# Altium footprint library KF接线端子.PcbLib: 88 footprints (part 2 of 6)
Each footprint in its own frame and in the unit in brackets; x right, y up, seen from the top. Pads: shape width x height; smd on the part's side, far side on the other; paste and mask are expansions set on the pad; w line width, h text height; cw(c..) or ccw(c..) is an arc to the next point about the centre after c.
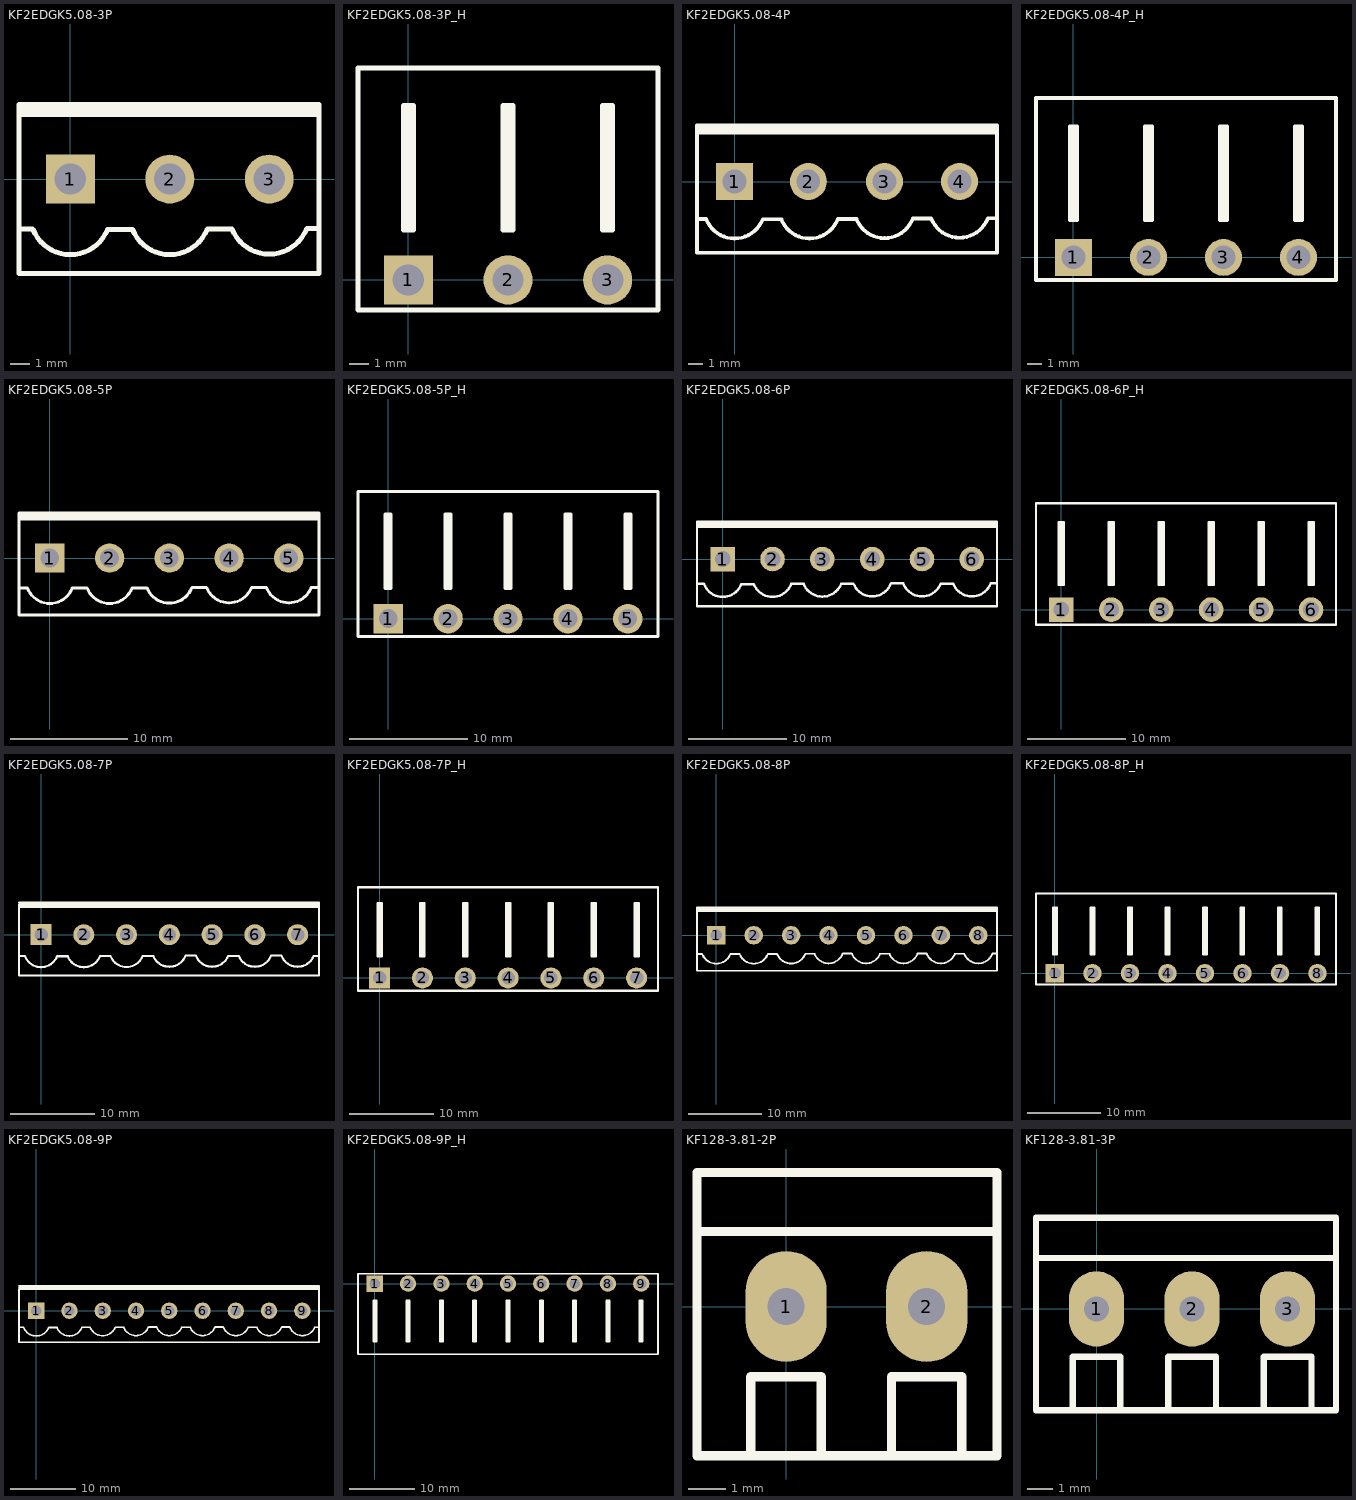
[diagram p1: the footprints below, top view; thin cyan lines are the x and y axes]

## KF2EDGK5.08-3P [mm] "直列插拔式端子"
pads (3):
  rect 2.5x2.5 hole 1.6: 1(0,0)
  round 2.5 hole 1.6: 2(5.08,0) 3(10.16,0)
Top Overlay:
  lines w0.254: -2.62,3.302 12.7,3.302 ; -2.62,3.556 12.7,3.556 ; -2.54,-2.54 -1.93,-2.54 ; -1.905,-2.565 ccw(c0,-1.812) 1.905,-2.565 2.54,-2.565 3.175,-2.565 ccw(c5.08,-1.812) 6.985,-2.565 ; 7.01,-2.54 7.62,-2.54 8.255,-2.54 ccw(c10.16,-1.787) 12.065,-2.54 ; 12.09,-2.515 12.7,-2.515 ; -2.62,-4.826 12.7,-4.826 12.7,3.81 -2.62,3.81 -2.62,-4.826
3D body: height 11.25, standoff -2.95, extent -2.54,-4.75 2.54,3.75
3D body: height 11.25, standoff -2.95, extent 2.54,-4.75 7.62,3.75
3D body: height 11.25, standoff -2.95, extent 7.62,-4.75 12.7,3.75

## KF2EDGK5.08-3P_H [mm] "弯角插拔式端子"
pads (3):
  rect 2.5x2.5 hole 1.6: 1(0,0)
  round 2.5 hole 1.6: 2(5.08,0) 3(10.16,0)
Top Overlay:
  lines w0.254: 0,2.54 0,8.89 ; 5.08,2.54 5.08,8.89 ; 10.16,2.54 10.16,8.89 ; 0,8.89 -0.254,8.89 -0.254,2.54 0.254,2.54 0.254,8.89 0,8.89 ; 5.08,8.89 4.826,8.89 4.826,2.54 5.334,2.54 5.334,8.89 5.08,8.89 ; 10.16,8.89 9.906,8.89 9.906,2.54 10.414,2.54 10.414,8.89 10.16,8.89 ; -2.565,-1.524 -2.565,10.795 12.725,10.795 12.725,-1.524 -2.565,-1.524
3D body: height 8.5, standoff -3, extent 7.62,-0.5 12.7,10.8
3D body: height 8.5, standoff -3, extent 2.54,-0.5 7.62,10.8
3D body: height 8.5, standoff -3, extent -2.54,-0.5 2.54,10.8

## KF2EDGK5.08-4P [mm] "直列插拔式端子"
pads (4):
  rect 2.5x2.5 hole 1.6: 1(0,0)
  round 2.5 hole 1.6: 2(5,0) 3(10.16,0) 4(15.24,0)
Top Overlay:
  lines w0.254: -2.54,-2.54 -1.93,-2.54 ; -2.54,3.302 17.78,3.302 ; -2.515,3.556 17.78,3.556 ; -1.905,-2.565 ccw(c0,-1.812) 1.905,-2.565 2.54,-2.565 3.175,-2.565 ccw(c5.08,-1.812) 6.985,-2.565 ; 7.01,-2.54 7.62,-2.54 8.255,-2.54 ccw(c10.16,-1.787) 12.065,-2.54 ; 12.09,-2.515 12.7,-2.515 13.335,-2.515 ccw(c15.24,-1.762) 17.145,-2.515 ; 17.17,-2.489 17.78,-2.489 ; -2.54,-4.826 17.78,-4.826 17.78,3.81 -2.54,3.81 -2.54,-4.826
3D body: height 11.25, standoff -2.95, extent -2.54,-4.75 2.54,3.75
3D body: height 11.25, standoff -2.95, extent 2.54,-4.75 7.62,3.75
3D body: height 11.25, standoff -2.95, extent 7.62,-4.75 12.7,3.75
3D body: height 11.25, standoff -2.95, extent 12.7,-4.75 17.78,3.75

## KF2EDGK5.08-4P_H [mm] "弯角插拔式端子"
pads (4):
  rect 2.5x2.5 hole 1.6: 1(0,0)
  round 2.5 hole 1.6: 2(5.08,0) 3(10.16,0) 4(15.24,0)
Top Overlay:
  lines w0.254: 0,2.54 0,8.89 ; 5.08,2.54 5.08,8.89 ; 10.16,2.54 10.16,8.89 ; 15.24,2.54 15.24,8.89 ; 0,8.89 -0.254,8.89 -0.254,2.54 0.254,2.54 0.254,8.89 0,8.89 ; 5.08,8.89 5.334,8.89 5.334,2.54 4.826,2.54 4.826,8.89 5.08,8.89 ; 10.16,8.89 10.414,8.89 10.414,2.54 9.906,2.54 9.906,8.89 10.16,8.89 ; 15.24,8.89 15.494,8.89 15.494,2.54 14.986,2.54 14.986,8.89 15.24,8.89 ; -2.54,-1.524 -2.54,10.795 17.78,10.795 17.78,-1.524 -2.54,-1.524
3D body: height 8.5, standoff -3, extent 12.7,-0.5 17.78,10.8
3D body: height 8.5, standoff -3, extent 7.62,-0.5 12.7,10.8
3D body: height 8.5, standoff -3, extent 2.54,-0.5 7.62,10.8
3D body: height 8.5, standoff -3, extent -2.54,-0.5 2.54,10.8

## KF2EDGK5.08-5P [mm] "直列插拔式端子"
pads (5):
  rect 2.5x2.5 hole 1.6: 1(0,0)
  round 2.5 hole 1.6: 2(5.08,0) 3(10.16,0) 4(15.24,0) 5(20.32,0)
Top Overlay:
  lines w0.254: -2.62,3.302 22.885,3.302 ; -2.62,3.556 22.885,3.556 ; -2.54,-2.54 -1.93,-2.54 ; -1.905,-2.565 ccw(c0,-1.812) 1.905,-2.565 2.54,-2.565 3.175,-2.565 ccw(c5.08,-1.812) 6.985,-2.565 ; 7.01,-2.54 7.62,-2.54 8.255,-2.54 ccw(c10.16,-1.787) 12.065,-2.54 ; 12.09,-2.515 12.7,-2.515 13.335,-2.515 ccw(c15.24,-1.762) 17.145,-2.515 ; 17.17,-2.489 17.78,-2.489 18.39,-2.489 ; 18.415,-2.515 ccw(c20.32,-1.762) 22.225,-2.515 22.86,-2.515 ; -2.62,-4.826 22.885,-4.826 22.885,3.81 -2.62,3.81 -2.62,-4.826
3D body: height 11.25, standoff -2.95, extent 17.78,-4.75 22.86,3.75
3D body: height 11.25, standoff -2.95, extent 12.7,-4.75 17.78,3.75
3D body: height 11.25, standoff -2.95, extent 7.62,-4.75 12.7,3.75
3D body: height 11.25, standoff -2.95, extent 2.54,-4.75 7.62,3.75
3D body: height 11.25, standoff -2.95, extent -2.54,-4.75 2.54,3.75

## KF2EDGK5.08-5P_H [mm] "弯角插拔式端子"
pads (5):
  rect 2.5x2.5 hole 1.6: 1(0,0)
  round 2.5 hole 1.6: 2(5.08,0) 3(10.16,0) 4(15.24,0) 5(20.32,0)
Top Overlay:
  lines w0.254: 0,2.54 0,8.89 ; 5.08,2.54 5.08,8.89 ; 10.16,2.54 10.16,8.89 ; 15.24,2.54 15.24,8.89 ; 20.32,2.54 20.32,8.89 ; 0,8.89 0.254,8.89 0.254,2.54 -0.254,2.54 -0.254,8.89 0,8.89 ; 5.08,8.89 5.334,8.89 5.334,2.54 4.826,2.54 4.826,8.89 5.08,8.89 ; 10.16,8.89 10.414,8.89 10.414,2.54 9.906,2.54 9.906,8.89 10.16,8.89 ; 15.24,8.89 15.494,8.89 15.494,2.54 14.986,2.54 14.986,8.89 15.24,8.89 ; 20.32,8.89 20.574,8.89 20.574,2.54 20.066,2.54 20.066,8.89 20.32,8.89 ; -2.565,-1.524 22.885,-1.524 22.885,10.795 -2.565,10.795 -2.565,-1.524
3D body: height 8.5, standoff -3, extent 17.78,-0.5 22.86,10.8
3D body: height 8.5, standoff -3, extent 12.7,-0.5 17.78,10.8
3D body: height 8.5, standoff -3, extent 7.62,-0.5 12.7,10.8
3D body: height 8.5, standoff -3, extent 2.54,-0.5 7.62,10.8
3D body: height 8.5, standoff -3, extent -2.54,-0.5 2.54,10.8

## KF2EDGK5.08-6P [mm] "直列插拔式端子"
pads (6):
  rect 2.5x2.5 hole 1.6: 1(0,0)
  round 2.5 hole 1.6: 2(5.08,0) 3(10.16,0) 4(15.24,0) 5(20.32,0) 6(25.4,0)
Top Overlay:
  lines w0.254: -2.62,3.302 27.965,3.302 ; -2.62,3.556 27.965,3.556 ; -2.54,-2.54 -1.93,-2.54 ; -1.905,-2.565 ccw(c0,-1.812) 1.905,-2.565 2.54,-2.565 3.175,-2.565 ccw(c5.08,-1.812) 6.985,-2.565 ; 7.01,-2.54 7.62,-2.54 8.255,-2.54 ccw(c10.16,-1.787) 12.065,-2.54 ; 12.09,-2.515 12.7,-2.515 13.335,-2.515 ccw(c15.24,-1.762) 17.145,-2.515 ; 17.17,-2.489 17.78,-2.489 18.39,-2.489 ; 18.415,-2.515 ccw(c20.32,-1.762) 22.225,-2.515 22.86,-2.515 23.495,-2.515 ccw(c25.4,-1.762) 27.305,-2.515 ; 27.33,-2.489 27.94,-2.489 ; -2.62,-4.826 -2.62,3.81 27.965,3.81 27.965,-4.826 -2.62,-4.826
3D body: height 11.25, standoff -2.95, extent 22.86,-4.75 27.94,3.75
3D body: height 11.25, standoff -2.95, extent 17.78,-4.75 22.86,3.75
3D body: height 11.25, standoff -2.95, extent 12.7,-4.75 17.78,3.75
3D body: height 11.25, standoff -2.95, extent 7.62,-4.75 12.7,3.75
3D body: height 11.25, standoff -2.95, extent 2.54,-4.75 7.62,3.75
3D body: height 11.25, standoff -2.95, extent -2.54,-4.75 2.54,3.75

## KF2EDGK5.08-6P_H [mm] "弯角插拔式端子"
pads (6):
  rect 2.5x2.5 hole 1.6: 1(0,0)
  round 2.5 hole 1.6: 2(5.08,0) 3(10.16,0) 4(15.24,0) 5(20.32,0) 6(25.4,0)
Top Overlay:
  lines w0.254: 0,2.54 0,8.89 ; 5.08,2.54 5.08,8.89 ; 10.16,2.54 10.16,8.89 ; 15.24,2.54 15.24,8.89 ; 20.32,2.54 20.32,8.89 ; 25.4,2.54 25.4,8.89 ; 0,8.89 0.254,8.89 0.254,2.54 -0.254,2.54 -0.254,8.89 0,8.89 ; 5.08,8.89 4.826,8.89 4.826,2.54 5.334,2.54 5.334,8.89 5.08,8.89 ; 10.16,8.89 9.906,8.89 9.906,2.54 10.414,2.54 10.414,8.89 10.16,8.89 ; 15.24,8.89 14.986,8.89 14.986,2.54 15.494,2.54 15.494,8.89 15.24,8.89 ; 20.32,8.89 20.066,8.89 20.066,2.54 20.574,2.54 20.574,8.89 20.32,8.89 ; 25.4,8.89 25.146,8.89 25.146,2.54 25.654,2.54 25.654,8.89 25.4,8.89 ; -2.565,-1.524 27.94,-1.524 27.94,10.8 -2.565,10.8 -2.565,-1.524
3D body: height 8.5, standoff -3, extent 22.86,-0.5 27.94,10.8
3D body: height 8.5, standoff -3, extent 17.78,-0.5 22.86,10.8
3D body: height 8.5, standoff -3, extent 12.7,-0.5 17.78,10.8
3D body: height 8.5, standoff -3, extent 7.62,-0.5 12.7,10.8
3D body: height 8.5, standoff -3, extent 2.54,-0.5 7.62,10.8
3D body: height 8.5, standoff -3, extent -2.54,-0.5 2.54,10.8

## KF2EDGK5.08-7P [mm] "直列插拔式端子"
pads (7):
  rect 2.5x2.5 hole 1.6: 1(0,0)
  round 2.5 hole 1.6: 2(5.08,0) 3(10.16,0) 4(15.24,0) 5(20.32,0) 6(25.4,0) 7(30.48,0)
Top Overlay:
  lines w0.254: -2.62,3.302 33.02,3.302 ; -2.62,3.81 33.02,3.81 33.02,-4.826 -2.62,-4.826 -2.62,3.556 33.02,3.556 ; -2.54,-2.54 -1.93,-2.54 ; -1.905,-2.565 ccw(c0,-1.812) 1.905,-2.565 2.54,-2.565 3.175,-2.565 ccw(c5.08,-1.812) 6.985,-2.565 ; 7.01,-2.54 7.62,-2.54 8.255,-2.54 ccw(c10.16,-1.787) 12.065,-2.54 ; 12.09,-2.515 12.7,-2.515 13.335,-2.515 ccw(c15.24,-1.762) 17.145,-2.515 ; 17.17,-2.489 17.78,-2.489 18.39,-2.489 ; 18.415,-2.515 ccw(c20.32,-1.762) 22.225,-2.515 22.86,-2.515 23.495,-2.515 ccw(c25.4,-1.762) 27.305,-2.515 ; 27.33,-2.489 27.94,-2.489 28.55,-2.489 ; 28.575,-2.515 ccw(c30.48,-1.762) 32.385,-2.515 33.02,-2.515
3D body: height 11.25, standoff -2.95, extent 27.94,-4.75 33.02,3.75
3D body: height 11.25, standoff -2.95, extent 22.86,-4.75 27.94,3.75
3D body: height 11.25, standoff -2.95, extent 17.78,-4.75 22.86,3.75
3D body: height 11.25, standoff -2.95, extent 12.7,-4.75 17.78,3.75
3D body: height 11.25, standoff -2.95, extent 2.54,-4.75 7.62,3.75
3D body: height 11.25, standoff -2.95, extent 7.62,-4.75 12.7,3.75
3D body: height 11.25, standoff -2.95, extent -2.54,-4.75 2.54,3.75

## KF2EDGK5.08-7P_H [mm] "弯角插拔式端子"
pads (7):
  rect 2.5x2.5 hole 1.6: 1(0,0)
  round 2.5 hole 1.6: 2(5.08,0) 3(10.16,0) 4(15.24,0) 5(20.32,0) 6(25.4,0) 7(30.48,0)
Top Overlay:
  lines w0.254: 0,2.54 0,8.89 ; 5.08,2.54 5.08,8.89 ; 10.16,2.54 10.16,8.89 ; 15.24,2.54 15.24,8.89 ; 20.32,2.54 20.32,8.89 ; 25.4,2.54 25.4,8.89 ; 30.48,2.54 30.48,8.89 ; 0,8.89 0.254,8.89 0.254,2.54 -0.254,2.54 -0.254,8.89 0,8.89 ; 5.08,8.89 4.826,8.89 4.826,2.54 5.334,2.54 5.334,8.89 5.08,8.89 ; 10.16,8.89 9.906,8.89 9.906,2.54 10.414,2.54 10.414,8.89 10.16,8.89 ; 15.24,8.89 14.986,8.89 14.986,2.54 15.494,2.54 15.494,8.89 15.24,8.89 ; 20.32,8.89 20.066,8.89 20.066,2.54 20.574,2.54 20.574,8.89 20.32,8.89 ; 25.4,8.89 25.146,8.89 25.146,2.54 25.654,2.54 25.654,8.89 25.4,8.89 ; 30.48,8.89 30.226,8.89 30.226,2.54 30.734,2.54 30.734,8.89 30.48,8.89 ; -2.565,-1.524 33.02,-1.524 33.02,10.77 -2.565,10.77 -2.565,-1.524
3D body: height 8.5, standoff -3, extent 27.94,-0.5 33.02,10.8
3D body: height 8.5, standoff -3, extent 22.86,-0.5 27.94,10.8
3D body: height 8.5, standoff -3, extent 17.78,-0.5 22.86,10.8
3D body: height 8.5, standoff -3, extent 12.7,-0.5 17.78,10.8
3D body: height 8.5, standoff -3, extent 7.62,-0.5 12.7,10.8
3D body: height 8.5, standoff -3, extent 2.54,-0.5 7.62,10.8
3D body: height 8.5, standoff -3, extent -2.54,-0.5 2.54,10.8

## KF2EDGK5.08-8P [mm] "直列插拔式端子"
pads (8):
  rect 2.5x2.5 hole 1.6: 1(0,0)
  round 2.5 hole 1.6: 2(5.08,0) 3(10.16,0) 4(15.24,0) 5(20.32,0) 6(25.4,0) 7(30.48,0) 8(35.56,0)
Top Overlay:
  lines w0.254: -2.62,3.302 38.1,3.302 ; -2.62,3.556 38.1,3.556 ; -2.54,-2.54 -1.93,-2.54 ; -1.905,-2.565 ccw(c0,-1.812) 1.905,-2.565 2.54,-2.565 3.175,-2.565 ccw(c5.08,-1.812) 6.985,-2.565 ; 7.01,-2.54 7.62,-2.54 8.255,-2.54 ccw(c10.16,-1.787) 12.065,-2.54 ; 12.09,-2.515 12.7,-2.515 13.335,-2.515 ccw(c15.24,-1.762) 17.145,-2.515 ; 17.17,-2.489 17.78,-2.489 18.39,-2.489 ; 18.415,-2.515 ccw(c20.32,-1.762) 22.225,-2.515 22.86,-2.515 23.495,-2.515 ccw(c25.4,-1.762) 27.305,-2.515 ; 27.33,-2.489 27.94,-2.489 28.55,-2.489 ; 28.575,-2.515 ccw(c30.48,-1.762) 32.385,-2.515 33.02,-2.515 33.655,-2.515 ccw(c35.56,-1.762) 37.465,-2.515 ; 37.49,-2.489 38.1,-2.489 ; -2.62,-4.826 -2.62,3.81 38.1,3.81 38.1,-4.826 -2.62,-4.826
3D body: height 11.25, standoff -2.95, extent -2.54,-4.75 2.54,3.75
3D body: height 11.25, standoff -2.95, extent 2.54,-4.75 7.62,3.75
3D body: height 11.25, standoff -2.95, extent 7.62,-4.75 12.7,3.75
3D body: height 11.25, standoff -2.95, extent 12.7,-4.75 17.78,3.75
3D body: height 11.25, standoff -2.95, extent 17.78,-4.75 22.86,3.75
3D body: height 11.25, standoff -2.95, extent 22.86,-4.75 27.94,3.75
3D body: height 11.25, standoff -2.95, extent 27.94,-4.75 33.02,3.75
3D body: height 11.25, standoff -2.95, extent 33.02,-4.75 38.1,3.75

## KF2EDGK5.08-8P_H [mm] "弯角插拔式端子"
pads (8):
  rect 2.5x2.5 hole 1.6: 1(0,0)
  round 2.5 hole 1.6: 2(5.08,0) 3(10.16,0) 4(15.24,0) 5(20.32,0) 6(25.4,0) 7(30.48,0) 8(35.56,0)
Top Overlay:
  lines w0.254: 0,2.54 0,8.89 ; 5.08,2.54 5.08,8.89 ; 10.16,2.54 10.16,8.89 ; 15.24,2.54 15.24,8.89 ; 20.32,2.54 20.32,8.89 ; 25.4,2.54 25.4,8.89 ; 30.48,2.54 30.48,8.89 ; 35.56,2.54 35.56,8.89 ; 0,8.89 0.254,8.89 0.254,2.54 -0.254,2.54 -0.254,8.89 0,8.89 ; 5.08,8.89 4.826,8.89 4.826,2.54 5.334,2.54 5.334,8.89 5.08,8.89 ; 10.16,8.89 9.906,8.89 9.906,2.54 10.414,2.54 10.414,8.89 10.16,8.89 ; 15.24,8.89 14.986,8.89 14.986,2.54 15.494,2.54 15.494,8.89 15.24,8.89 ; 20.32,8.89 20.066,8.89 20.066,2.54 20.574,2.54 20.574,8.89 20.32,8.89 ; 25.4,8.89 25.146,8.89 25.146,2.54 25.654,2.54 25.654,8.89 25.4,8.89 ; 30.48,8.89 30.226,8.89 30.226,2.54 30.734,2.54 30.734,8.89 30.48,8.89 ; 35.56,8.89 35.306,8.89 35.306,2.54 35.814,2.54 35.814,8.89 35.56,8.89 ; -2.565,-1.524 38.075,-1.524 38.075,10.795 -2.565,10.795 -2.565,-1.524
3D body: height 8.5, standoff -3, extent 33.02,-0.5 38.1,10.8
3D body: height 8.5, standoff -3, extent 27.94,-0.5 33.02,10.8
3D body: height 8.5, standoff -3, extent 22.86,-0.5 27.94,10.8
3D body: height 8.5, standoff -3, extent 17.78,-0.5 22.86,10.8
3D body: height 8.5, standoff -3, extent 12.7,-0.5 17.78,10.8
3D body: height 8.5, standoff -3, extent 7.62,-0.5 12.7,10.8
3D body: height 8.5, standoff -3, extent 2.54,-0.5 7.62,10.8
3D body: height 8.5, standoff -3, extent -2.54,-0.5 2.54,10.8

## KF2EDGK5.08-9P [mm] "直列插拔式端子"
pads (9):
  rect 2.5x2.5 hole 1.6: 1(0,0)
  round 2.5 hole 1.6: 2(5.08,0) 3(10.16,0) 4(15.24,0) 5(20.32,0) 6(25.4,0) 7(30.48,0) 8(35.56,0) 9(40.64,0)
Top Overlay:
  lines w0.254: -2.62,3.556 43.129,3.556 ; -2.62,3.81 43.18,3.81 43.18,-4.826 -2.62,-4.826 -2.62,3.302 43.18,3.302 ; -2.54,-2.54 -1.93,-2.54 ; -1.905,-2.565 ccw(c0,-1.812) 1.905,-2.565 2.54,-2.565 3.175,-2.565 ccw(c5.08,-1.812) 6.985,-2.565 ; 7.01,-2.54 7.62,-2.54 8.255,-2.54 ccw(c10.16,-1.787) 12.065,-2.54 ; 12.09,-2.515 12.7,-2.515 13.335,-2.515 ccw(c15.24,-1.762) 17.145,-2.515 ; 17.17,-2.489 17.78,-2.489 18.39,-2.489 ; 18.415,-2.515 ccw(c20.32,-1.762) 22.225,-2.515 22.86,-2.515 23.495,-2.515 ccw(c25.4,-1.762) 27.305,-2.515 ; 27.33,-2.489 27.94,-2.489 28.55,-2.489 ; 28.575,-2.515 ccw(c30.48,-1.762) 32.385,-2.515 33.02,-2.515 33.655,-2.515 ccw(c35.56,-1.762) 37.465,-2.515 ; 37.49,-2.489 38.1,-2.489 38.71,-2.489 ; 38.735,-2.515 ccw(c40.64,-1.762) 42.545,-2.515 43.18,-2.515
3D body: height 11.25, standoff -2.95, extent 38.1,-4.75 43.18,3.75
3D body: height 11.25, standoff -2.95, extent 33.02,-4.75 38.1,3.75
3D body: height 11.25, standoff -2.95, extent 27.94,-4.75 33.02,3.75
3D body: height 11.25, standoff -2.95, extent 22.86,-4.75 27.94,3.75
3D body: height 11.25, standoff -2.95, extent 17.78,-4.75 22.86,3.75
3D body: height 11.25, standoff -2.95, extent 12.7,-4.75 17.78,3.75
3D body: height 11.25, standoff -2.95, extent 7.62,-4.75 12.7,3.75
3D body: height 11.25, standoff -2.95, extent 2.54,-4.75 7.62,3.75
3D body: height 11.25, standoff -2.95, extent -2.54,-4.75 2.54,3.75

## KF2EDGK5.08-9P_H [mm] "弯角插拔式端子"
pads (9):
  rect 2.5x2.5 hole 1.6: 1(0,0)
  round 2.5 hole 1.6: 2(5.08,0) 3(10.16,0) 4(15.24,0) 5(20.32,0) 6(25.4,0) 7(30.48,0) 8(35.56,0) 9(40.64,0)
Top Overlay:
  lines w0.254: 0,-2.54 0,-8.89 ; 5.08,-2.54 5.08,-8.89 ; 10.16,-2.54 10.16,-8.89 ; 15.24,-2.54 15.24,-8.89 ; 20.32,-2.54 20.32,-8.89 ; 25.4,-2.54 25.4,-8.89 ; 30.48,-2.54 30.48,-8.89 ; 35.56,-2.54 35.56,-8.89 ; 40.64,-2.54 40.64,-8.89 ; 0,-8.89 -0.254,-8.89 -0.254,-2.54 0.254,-2.54 0.254,-8.89 0,-8.89 ; 5.08,-8.89 5.334,-8.89 5.334,-2.54 4.826,-2.54 4.826,-8.89 5.08,-8.89 ; 10.16,-8.89 10.414,-8.89 10.414,-2.54 9.906,-2.54 9.906,-8.89 10.16,-8.89 ; 15.24,-8.89 15.494,-8.89 15.494,-2.54 14.986,-2.54 14.986,-8.89 15.24,-8.89 ; 20.32,-8.89 20.574,-8.89 20.574,-2.54 20.066,-2.54 20.066,-8.89 20.32,-8.89 ; 25.4,-8.89 25.654,-8.89 25.654,-2.54 25.146,-2.54 25.146,-8.89 25.4,-8.89 ; 30.48,-8.89 30.734,-8.89 30.734,-2.54 30.226,-2.54 30.226,-8.89 30.48,-8.89 ; 35.56,-8.89 35.814,-8.89 35.814,-2.54 35.306,-2.54 35.306,-8.89 35.56,-8.89 ; 40.64,-8.89 40.386,-8.89 40.386,-2.54 40.894,-2.54 40.894,-8.89 40.64,-8.89 ; -2.565,-10.795 -2.565,1.524 43.205,1.524 43.205,-10.795 -2.565,-10.795
3D body: height 8.5, standoff -3, extent 33.02,-10.8 38.1,0.5
3D body: height 8.5, standoff -3, extent 27.94,-10.8 33.02,0.5
3D body: height 8.5, standoff -3, extent 22.86,-10.8 27.94,0.5
3D body: height 8.5, standoff -3, extent 17.78,-10.8 22.86,0.5
3D body: height 8.5, standoff -3, extent 12.7,-10.8 17.78,0.5
3D body: height 8.5, standoff -3, extent 7.62,-10.8 12.7,0.5
3D body: height 8.5, standoff -3, extent 2.54,-10.8 7.62,0.5
3D body: height 8.5, standoff -3, extent -2.54,-10.8 2.54,0.5
3D body: height 8.5, standoff -3, extent 38.1,-10.8 43.18,0.5

## KF128-3.81-2P [mm] "螺钉式接线端子，脚距3.81mm"
pads (2):
  oval 2.2x3 hole 1: 1(0,0) 2(3.81,0)
Top Overlay:
  lines w0.254: -2.413,2.032 5.715,2.032 ; -0.953,-4.039 -0.953,-1.905 0.953,-1.905 0.953,-4.039 ; 2.857,-4.039 2.857,-1.905 4.763,-1.905 4.763,-4.039 ; -2.413,-4.039 5.715,-4.039 5.715,3.632 -2.413,3.632 -2.413,-4.039
3D body: height 8.55, standoff -3.95, extent -2.405,-3.9 1.905,3.5
3D body: height 8.55, standoff -3.95, extent 1.405,-3.9 5.715,3.5

## KF128-3.81-3P [mm] "螺钉式接线端子，脚距3.81mm"
pads (3):
  oval 2.2x3 hole 1: 1(0,0) 2(3.81,0) 3(7.62,0)
Top Overlay:
  lines w0.254: -2.413,2.032 9.55,2.032 ; -0.953,-4.039 -0.953,-1.905 0.953,-1.905 0.953,-4.039 ; 2.857,-4.039 2.857,-1.905 4.763,-1.905 4.763,-4.039 ; 6.667,-4.039 6.667,-1.905 8.572,-1.905 8.572,-4.039 ; -2.413,-4.039 -2.413,3.632 9.55,3.632 9.55,-4.039 -2.413,-4.039
3D body: height 8.55, standoff -3.95, extent 1.405,-3.9 5.715,3.5
3D body: height 8.55, standoff -3.95, extent -2.405,-3.9 1.905,3.5
3D body: height 8.55, standoff -3.95, extent 5.215,-3.9 9.525,3.5